# Altium schematic symbol library lt-spice-simulation.SCHLIB: 18 symbols
Pins are listed as number, name and electrical type; pins without a type are passive.

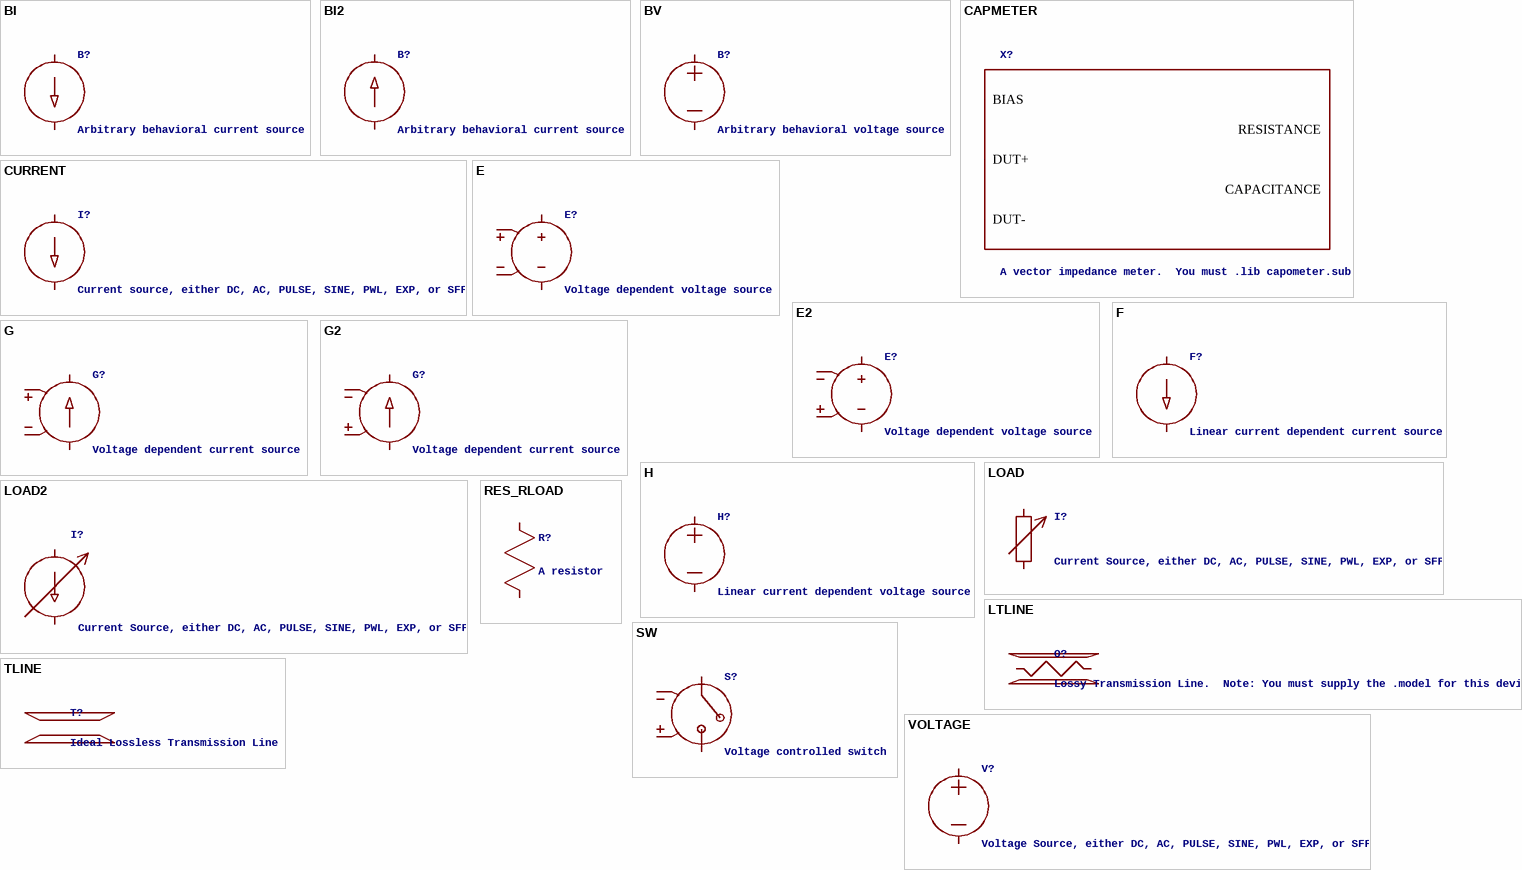
[diagram p0: symbols BI to VOLTAGE]

## BI
designator B?, comment Arbitrary behavioral current source
pins: ?1 +, ?2 -

## BI2
designator B?, comment Arbitrary behavioral current source
pins: ?1 +, ?2 -

## BV
designator B?, comment Arbitrary behavioral voltage source
pins: ?1 +, ?2 -

## CAPMETER
designator X?, comment A vector impedance meter.  You must .lib capometer.sub
SPICELINE: current=1m freq=3Meg C=.5µ Q=.25
pins: ?1 DUT+, ?2 DUT-, ?3 BIAS, ?4 RESISTANCE, ?5 CAPACITANCE

## CURRENT
designator I?, comment Current source, either DC, AC, PULSE, SINE, PWL, EXP, or SFFM
pins: ?1 +, ?2 -

## E
designator E?, comment Voltage dependent voltage source
pins: ?1 +, ?2 -, ?3 P, ?4 N

## E2
designator E?, comment Voltage dependent voltage source
pins: ?1 +, ?2 -, ?3 P, ?4 N

## F
designator F?, comment Linear current dependent current source
pins: ?1 +, ?2 -

## G
designator G?, comment Voltage dependent current source
pins: ?1 +, ?2 -, ?3 NC+, ?4 NC-

## G2
designator G?, comment Voltage dependent current source
pins: ?1 +, ?2 -, ?3 NC+, ?4 NC-

## H
designator H?, comment Linear current dependent voltage source
pins: ?1 +, ?2 -

## LOAD
designator I?, comment Current Source, either DC, AC, PULSE, SINE, PWL, EXP, or SFFM
pins: ?1 A, ?2 B

## LOAD2
designator I?, comment Current Source, either DC, AC, PULSE, SINE, PWL, EXP, or SFFM
pins: ?1 +, ?2 -

## LTLINE
designator O?, comment Lossy Transmission Line.  Note: You must supply the .model for this device
pins: ?1 I1, ?2 R1, ?3 I2, ?4 R2

## RES_RLOAD
designator R?, comment A resistor
pins: ?1 A, ?2 B

## SW
designator S?, comment Voltage controlled switch
pins: ?1 A, ?2 B, ?3 NC+, ?4 NC-

## TLINE
designator T?, comment Ideal Lossless Transmission Line
pins: ?1 I1, ?2 R1, ?3 I2, ?4 R2

## VOLTAGE
designator V?, comment Voltage Source, either DC, AC, PULSE, SINE, PWL, EXP, or SFFM
pins: ?1 +, ?2 -